# Altium footprint library zener.PcbLib: 23 footprints (part 2 of 2)
Each footprint in its own frame and in the unit in brackets; x right, y up, seen from the top. Pads: shape width x height; smd on the part's side, far side on the other; paste and mask are expansions set on the pad; w line width, h text height; cw(c..) or ccw(c..) is an arc to the next point about the centre after c.
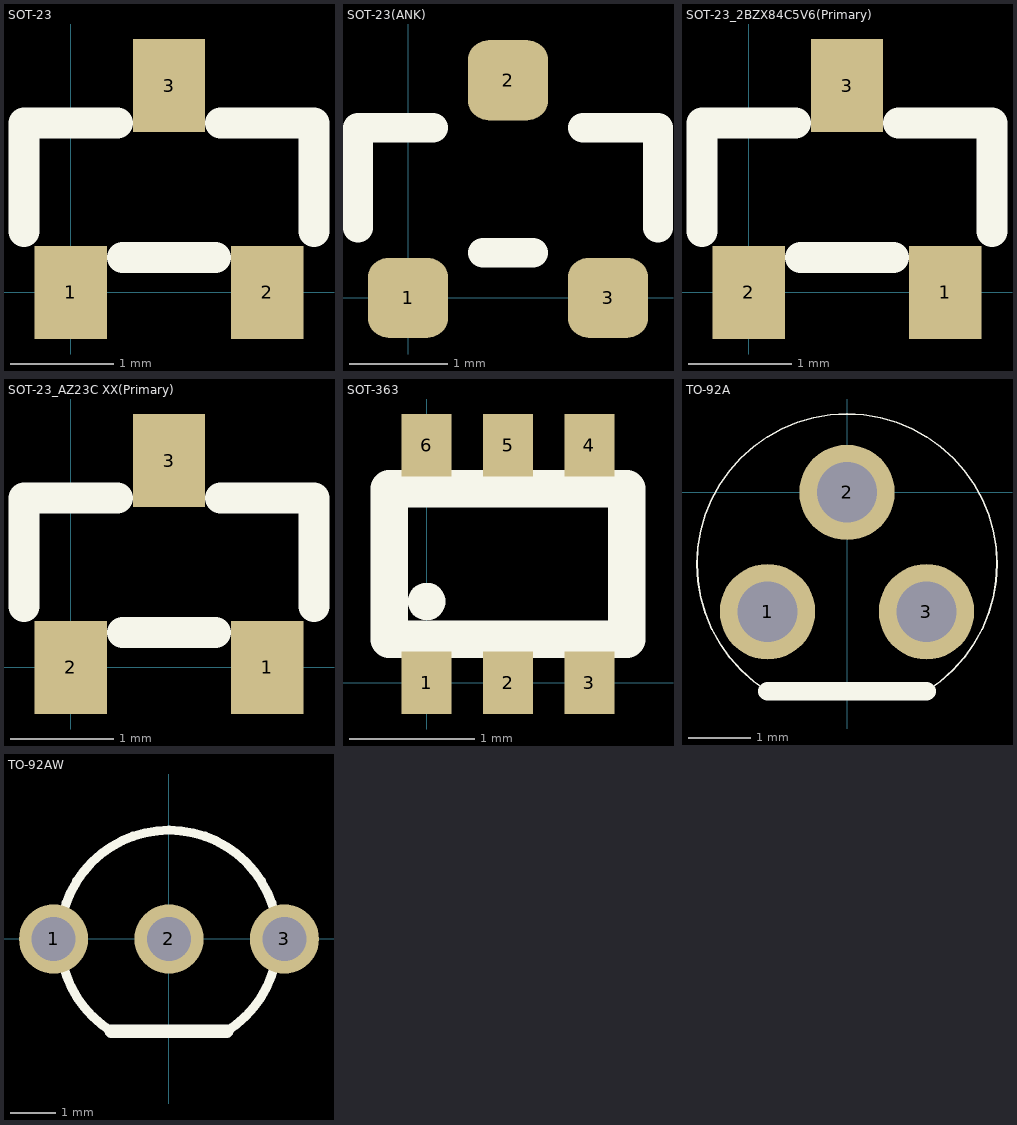
[diagram p1: the footprints below, top view; thin cyan lines are the x and y axes]

## SOT-23 [mm]
pads (3):
  rect 0.7x0.9 smd: 1(0,0) 2(1.9,0) 3(0.95,2)
Top Overlay:
  lines w0.3: -0.45,0.59 -0.45,1.64 0.45,1.64 ; 0.5,0.34 1.4,0.34 ; 1.45,1.64 2.35,1.64 2.35,0.59

## SOT-23(ANK) [mil]
pads (3):
  rrect50% 32x32 smd: 1(0,0) 2(40,87) 3(80,0)
Top Overlay:
  lines w11.81: -20,28 -20,68 10,68 ; 30,18 50,18 ; 70,68 100,68 100,28
3D body "User Library-3-lead sot23-3.step": height 39.37, standoff -0.79, extent -17.48,-4.2 97.49,93.28

## SOT-23_2BZX84C5V6(Primary) [mm]
pads (3):
  rect 0.7x0.9 smd: 1(1.9,0) 2(0,0) 3(0.95,2)
Top Overlay:
  lines w0.3: -0.45,0.59 -0.45,1.64 0.45,1.64 ; 0.5,0.34 1.4,0.34 ; 1.45,1.64 2.35,1.64 2.35,0.59

## SOT-23_AZ23C XX(Primary) [mm]
pads (3):
  rect 0.7x0.9 smd: 1(1.9,0) 2(0,0) 3(0.95,2)
Top Overlay:
  lines w0.3: -0.45,0.59 -0.45,1.64 0.45,1.64 ; 0.5,0.34 1.4,0.34 ; 1.45,1.64 2.35,1.64 2.35,0.59

## SOT-363 [mm]
pads (6):
  rect 0.4x0.5 smd: 1(0,0) 2(0.65,0) 3(1.3,0) 4(1.3,1.9) 5(0.65,1.9) 6(0,1.9)
Top Overlay:
  circle w0.2: c0,0.65 r0.05
  lines w0.3: -0.3,0.35 -0.3,1.55 1.6,1.55 1.6,0.35 -0.3,0.35

## TO-92A [mil]
pads (3):
  round 60 hole 38: 1(-50,-75) 2(0,0) 3(50,-75)
Top Overlay:
  lines w1: -49.99,-125 cw(c0,-45) 49.99,-125
  lines w11.81: -50,-125 50,-125

## TO-92AW [mil]
pads (3):
  round 60 hole 38: 1(-100,0) 2(0,0) 3(100,0)
Top Overlay:
  lines w7.87: -49.99,-80 cw(c0,0) 49.99,-80
  lines w11.81: -50,-80 50,-80